# Altium schematic symbol library SCREW_COUNTERSUNK_POZIDRIV.Schlib: 1 symbol
Pins are listed as number, name and electrical type; pins without a type are passive.

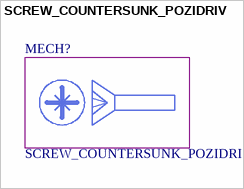
[diagram p0: symbol SCREW_COUNTERSUNK_POZIDRIV]

## SCREW_COUNTERSUNK_POZIDRIV
designator MECH?